# Altium footprint library xunpu.PcbLib: 13 footprints
Each footprint in its own frame and in the unit in brackets; x right, y up, seen from the top. Pads: shape width x height; smd on the part's side, far side on the other; paste and mask are expansions set on the pad; w line width, h text height; cw(c..) or ccw(c..) is an arc to the next point about the centre after c.
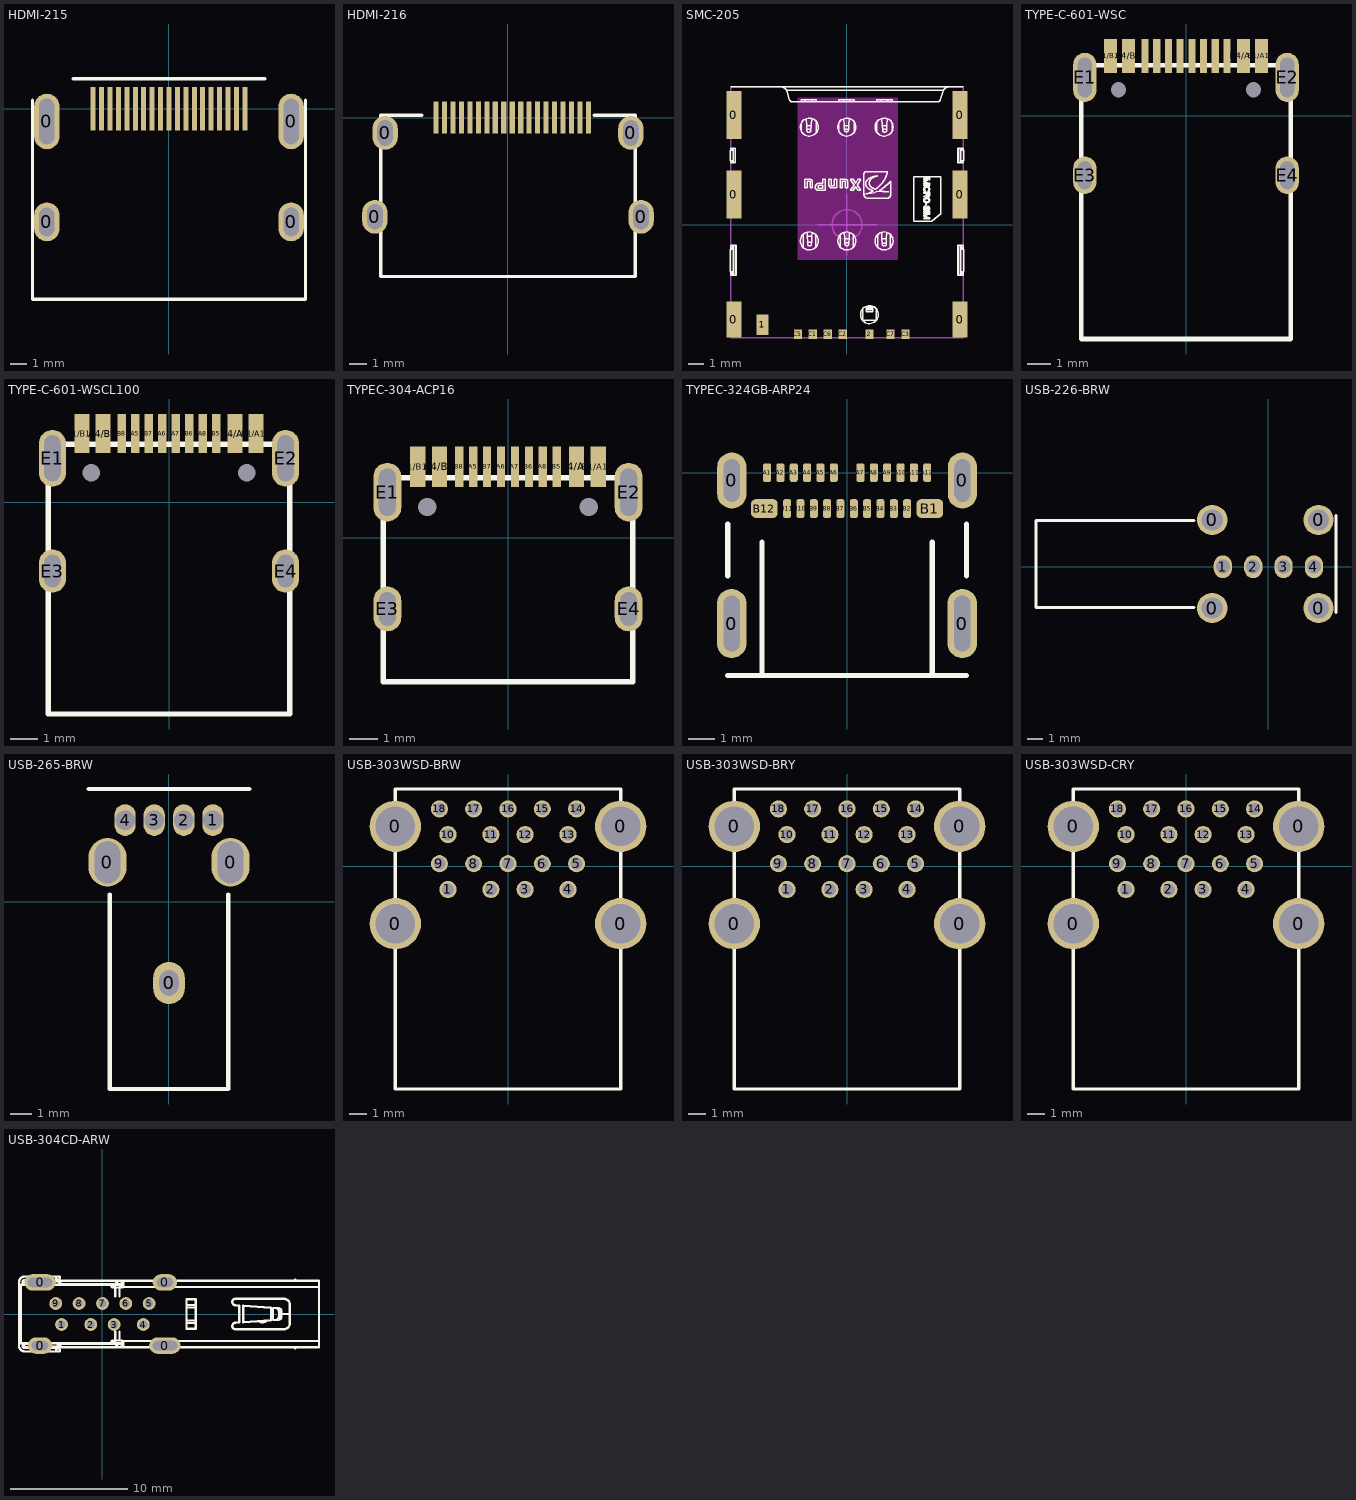
[diagram p0: the footprints below, top view; thin cyan lines are the x and y axes]

## HDMI-215 [mm]
pads (23):
  oval 1.5x2.3 hole 0.9 slot 1.7 at 90 deg unplated: 0(-7.25,-6.72) 0(7.25,-6.72)
  oval 1.5x3.3 hole 0.9 slot 2.7 at 90 deg unplated: 0(-7.25,-0.76) 0(7.25,-0.76)
  rect 0.3x2.6 smd: 1(4.5,0) 2(4,0) 3(3.5,0) 4(3,0) 5(2.5,0) 6(2,0) 7(1.5,0) 8(1,0) 9(0.5,0) 10(0,0) 11(-0.5,0) 12(-1,0) 13(-1.5,0) 14(-2,0) 15(-2.5,0) 16(-3,0) 17(-3.5,0) 18(-4,0) 19(-4.5,0)
Top Overlay:
  lines w0.2: -8.1,0.49 -8.1,-11.31 8.1,-11.31 8.1,0.49 ; -5.69,1.778 5.69,1.778
3D body "HDMI-215.STEP": height 8.47, standoff -2.09, extent -8.625,-11.31 8.625,0.49

## HDMI-216 [mm]
pads (23):
  oval 1.5x2 hole 0.9 slot 1.5 at 90 deg unplated: 0(-7.85,-5.85) 0(-7.25,-0.9) 0(7.25,-0.9) 0(7.85,-5.85)
  rect 0.3x1.9 smd: 1(4.75,0) 2(4.25,0) 3(3.75,0) 4(3.25,0) 5(2.75,0) 6(2.25,0) 7(1.75,0) 8(1.25,0) 9(0.75,0) 10(0.25,0) 11(-0.25,0) 12(-0.75,0) 13(-1.25,0) 14(-1.75,0) 15(-2.25,0) 16(-2.75,0) 17(-3.25,0) 18(-3.75,0) 19(-4.25,0)
Top Overlay:
  lines w0.2: -5.08,0.13 -7.5,0.13 -7.5,-9.37 7.5,-9.37 7.5,0.13 5.08,0.13
3D body "HDMI-216.STEP": height 6.28, standoff -1.86, extent -8.199,-9.37 8.199,0.777

## SMC-205 [mm]
pads (14):
  rect 1x2.4 smd: 0(-7.55,-6.337) 0(7.55,-6.337)
  rect 1x3.2 smd: 0(-7.55,2.013) 0(-7.55,7.313) 0(7.55,2.013) 0(7.55,7.313)
  rect 0.8x1.35 smd: 1(-5.65,-6.692)
  rect 0.55x0.65 smd: 2(1.5,-7.312) C1(-2.28,-7.312) C2(-0.28,-7.312) C3(3.91,-7.312) C5(-3.28,-7.312) C6(-1.28,-7.312) C7(2.91,-7.312)
Top Layer keep-out:
  region: -3.3,8.463 -3.3,-2.337 3.38,-2.337 3.38,8.463
Top Overlay:
  drawing of 2677 lines, arcs and shapes, not listed
Mechanical 15:
  circle w0.1: c0,0 r1
  lines w0.1: -2,0 2,0 ; 0,-2 0,2 ; -7.75,-7.538 7.75,-7.538 7.75,9.212 -7.75,9.212 -7.75,-7.538
3D body "SMC-205-ARP7.STEP": height 1.42, standoff -0.03, extent -7.801,-7.538 7.799,9.212

## TYPE-C-601-WSC [mm]
pads (18):
  rect 0.55x1.45 smd mask+0.05: A1/B12(-3.225,2.548) A4/B9(-2.45,2.548) B1/A12(3.225,2.548) B4/A9(2.45,2.548)
  rect 0.3x1.45 smd mask+0.05: A5(-1.25,2.548) A6(-0.25,2.548) A7(0.25,2.548) A8(1.25,2.548) B5(1.75,2.548) B6(0.75,2.548) B7(-0.75,2.548) B8(-1.75,2.548)
  oval 1x2.1 hole 1.7 slot 0.6 at 0 deg mask+0.05: E1(-4.32,1.632) E2(4.32,1.632)
  oval 1x1.6 hole 1.2 slot 0.6 at 0 deg mask+0.05: E3(-4.32,-2.548) E4(4.32,-2.548)
  rect 0x0 hole 0.65 unplated mask+0.05: H1(-2.89,1.102) H2(2.89,1.102)
Top Overlay:
  lines w0.2: -4.47,-9.547 -4.47,2.153 4.47,2.153 4.47,-9.547 -4.47,-9.547
3D body "TYPE-C-601-WSC.step": height 3.26, standoff -0.9, extent -4.445,-9.512 4.495,2.438

## TYPE-C-601-WSCL100 [mm]
pads (18):
  rect 0.55x1.45 smd mask+0.05: A1/B12(-3.225,2.548) A4/B9(-2.45,2.548) B1/A12(3.225,2.548) B4/A9(2.45,2.548)
  rect 0.3x1.45 smd mask+0.05: A5(-1.25,2.548) A6(-0.25,2.548) A7(0.25,2.548) A8(1.25,2.548) B5(1.75,2.548) B6(0.75,2.548) B7(-0.75,2.548) B8(-1.75,2.548)
  oval 1x2.1 hole 1.7 slot 0.6 at 0 deg mask+0.05: E1(-4.32,1.632) E2(4.32,1.632)
  oval 1x1.6 hole 1.2 slot 0.6 at 0 deg mask+0.05: E3(-4.32,-2.548) E4(4.32,-2.548)
  rect 0x0 hole 0.65 unplated mask+0.05: H1(-2.89,1.102) H2(2.89,1.102)
Top Overlay:
  lines w0.2: -4.47,-7.848 4.47,-7.848 4.47,2.153 -4.47,2.153 -4.47,-7.848
3D body "TYPE-C-601-WSCL100.STEP": height 3.36, standoff -0.8, extent -4.47,-7.818 4.47,2.432

## TYPEC-304-ACP16 [mm]
pads (18):
  rect 0.55x1.45 smd mask+0.05: A1/B12(-3.225,2.548) A4/B9(-2.45,2.548) B1/A12(3.225,2.548) B4/A9(2.45,2.548)
  rect 0.3x1.45 smd mask+0.05: A5(-1.25,2.548) A6(-0.25,2.548) A7(0.25,2.548) A8(1.25,2.548) B5(1.75,2.548) B6(0.75,2.548) B7(-0.75,2.548) B8(-1.75,2.548)
  oval 1x2.1 hole 1.7 slot 0.6 at 0 deg mask+0.05: E1(-4.32,1.632) E2(4.32,1.632)
  oval 1x1.6 hole 1.2 slot 0.6 at 0 deg mask+0.05: E3(-4.32,-2.548) E4(4.32,-2.548)
  rect 0x0 hole 0.65 unplated mask+0.05: H1(-2.89,1.102) H2(2.89,1.102)
Top Overlay:
  lines w0.2: -4.47,-5.148 4.47,-5.148 4.47,2.153 -4.47,2.153 -4.47,-5.148
3D body "TYPEC-304-ACP16.STEP": height 3.16, standoff -1.2, extent -4.5,-5.171 4.5,2.469

## TYPEC-324GB-ARP24 [mm]
pads (28):
  oval 1.1x2.6 hole 0.6 slot 2.1 at 90 deg unplated: 0(-4.325,-5.654) 0(4.315,-5.654)
  oval 1.1x2.1 hole 0.6 slot 1.6 at 90 deg unplated: 0(-4.32,-0.294) 0(4.32,-0.294)
  rrect50% 0.3x0.7 smd: A1(-3,0) A2(-2.5,0) A3(-2,0) A4(-1.5,0) A5(-1,0) A6(-0.5,0) A7(0.5,0) A8(1,0) A9(1.5,0) A10(2,0) A11(2.5,0) A12(3,0) B2(2.25,-1.346) B3(1.75,-1.346) B4(1.25,-1.346) B5(0.75,-1.346) B6(0.25,-1.346) B7(-0.25,-1.346) B8(-0.75,-1.346) B9(-1.25,-1.346) B10(-1.75,-1.346) B11(-2.25,-1.346)
  rrect50% 1x0.7 smd: B1(3.1,-1.346) B12(-3.1,-1.346)
Top Overlay:
  lines w0.2: -4.47,-7.604 4.47,-7.604 ; -4.47,-3.861 -4.47,-1.93 ; -3.19,-7.604 -3.19,-2.604 ; 3.19,-7.604 3.19,-2.604 ; 4.47,-3.861 4.47,-1.93
3D body "TYPEC-324GB-ARP24.STEP": height 3.26, standoff -0.8, extent -4.473,-7.604 4.473,0.297

## USB-226-BRW [mm]
pads (8):
  round 2 hole 1.4 unplated: 0(-3.7,-2.72) 0(-3.7,3.08) 0(3.3,-2.72) 0(3.3,3.08)
  oval 1.2x1.5 hole 0.92 unplated: 1(-3,0) 2(-1,0) 3(1,0) 4(3,0)
Top Overlay:
  lines w0.2: -4.9,-2.68 -15.3,-2.68 -15.3,3.04 -4.9,3.04 ; 4.45,-3.01 4.45,3.37
3D body "USB-226-BRW.STEP": height 13.4, standoff -3.6, extent -15.3,-3.301 4.21,3.661

## USB-265-BRW [mm]
pads (7):
  oval 1.8x2.3 hole 1.2 slot 2 at 90 deg unplated: 0(-2.911,1.855) 0(2.911,1.855)
  oval 1.5x2 hole 0.9 slot 1.2 at 90 deg unplated: 0(0,-3.855)
  oval 1x1.5 hole 0.92 unplated: 1(2.075,3.855) 2(0.7,3.855) 3(-0.7,3.855) 4(-2.075,3.855)
Top Overlay:
  lines w0.2: -3.8,5.325 3.8,5.325 ; -2.8,0.325 -2.8,-8.875 2.8,-8.875 2.8,0.325
3D body "USB-265-BRW.STEP": height 13.72, standoff -2.8, extent -3.822,-8.875 3.822,5.325

## USB-303WSD-BRW [mm]
pads (22):
  round 3 hole 2.3 unplated: 0(-6.57,-3.35) 0(-6.57,2.33) 0(6.57,-3.35) 0(6.57,2.33)
  round 1 hole 0.7 unplated: 1(-3.5,-1.35) 2(-1,-1.35) 3(1,-1.35) 4(3.5,-1.35) 5(4,0.15) 6(2,0.15) 7(0,0.15) 8(-2,0.15) 9(-4,0.15) 10(-3.5,1.85) 11(-1,1.85) 12(1,1.85) 13(3.5,1.85) 14(4,3.35) 15(2,3.35) 16(0,3.35) 17(-2,3.35) 18(-4,3.35)
Top Overlay:
  lines w0.2: -6.57,-12.99 -6.57,4.51 6.57,4.51 6.57,-12.99 0,-12.99 -6.57,-12.99
3D body "USB-303WSD-BRW.STEP": height 15.56, standoff -3.84, extent -7.904,-12.99 7.904,4.664

## USB-303WSD-BRY [mm]
pads (22):
  round 3 hole 2.3 unplated: 0(-6.57,-3.35) 0(-6.57,2.33) 0(6.57,-3.35) 0(6.57,2.33)
  round 1 hole 0.7 unplated: 1(-3.5,-1.35) 2(-1,-1.35) 3(1,-1.35) 4(3.5,-1.35) 5(4,0.15) 6(2,0.15) 7(0,0.15) 8(-2,0.15) 9(-4,0.15) 10(-3.5,1.85) 11(-1,1.85) 12(1,1.85) 13(3.5,1.85) 14(4,3.35) 15(2,3.35) 16(0,3.35) 17(-2,3.35) 18(-4,3.35)
Top Overlay:
  lines w0.2: -6.57,-12.99 -6.57,4.51 6.57,4.51 6.57,-12.99 0,-12.99 -6.57,-12.99
3D body "USB-303WSD-BRY.STEP": height 16.19, standoff -3.22, extent -7.8,-13.183 7.8,4.517

## USB-303WSD-CRY [mm]
pads (22):
  round 3 hole 2.3 unplated: 0(-6.57,-3.35) 0(-6.57,2.33) 0(6.57,-3.35) 0(6.57,2.33)
  round 1 hole 0.7 unplated: 1(-3.5,-1.35) 2(-1,-1.35) 3(1,-1.35) 4(3.5,-1.35) 5(4,0.15) 6(2,0.15) 7(0,0.15) 8(-2,0.15) 9(-4,0.15) 10(-3.5,1.85) 11(-1,1.85) 12(1,1.85) 13(3.5,1.85) 14(4,3.35) 15(2,3.35) 16(0,3.35) 17(-2,3.35) 18(-4,3.35)
Top Overlay:
  lines w0.2: -6.57,-12.99 -6.57,4.51 6.57,4.51 6.57,-12.99 0,-12.99 -6.57,-12.99
3D body "USB-303WSD-CRY.step": height 16.19, standoff -3.22, extent -7.8,-13.183 7.8,4.517

## USB-304CD-ARW [mm]
pads (13):
  oval 2.1x1.4 hole 0.8 slot 1.4 at 0 deg unplated: 0(-5.35,-2.71) 0(5.35,2.71)
  oval 2.7x1.4 hole 0.8 slot 2.1 at 0 deg unplated: 0(-5.35,2.71) 0(5.35,-2.71)
  round 1.1 hole 0.7 unplated: 1(-3.5,-0.9) 2(-1,-0.9) 3(1,-0.9) 4(3.5,-0.9) 5(4,0.9) 6(2,0.9) 7(0,0.9) 8(-2,0.9) 9(-4,0.9)
Top Overlay:
  drawing of 1768 lines, arcs and shapes, not listed
3D body "USB-304CD-ARW.STEP": height 13.87, standoff -3.56, extent -7.15,-3.21 18.55,3.21